# Altium schematic symbol library 705550001.SchLib: 2 symbols
Pins are listed as number, name and electrical type; pins without a type are passive.

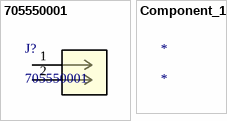
[diagram p0: symbols 705550001 to Component_1]

## 705550001
designator J?
2.54mm Pitch SL Header, Single Row, Right Angle, 3.05mm Pocket, Shrouded, with Press-fit Plastic Peg, 2 Circuits, Tin (Sn) Plating; Manufacturer_Name: Molex Connector Corporation; Copyright: Copyright (C) 2025 Ultra Librarian. All rights reserved.; Manufacturer_Part_Number: 705550001; Datasheet: https://www.molex.com/en-us/products/part-detail-pdf/705550001?display=pdf; RefDes: RefDes; Type: Type
footprint CONN_705550000-SD_02_MOL
pins: 1, 2

## Component_1
designator *